# Altium schematic symbol library Schlib.SchLib: 6 symbols
Pins are listed as number, name and electrical type; pins without a type are passive.

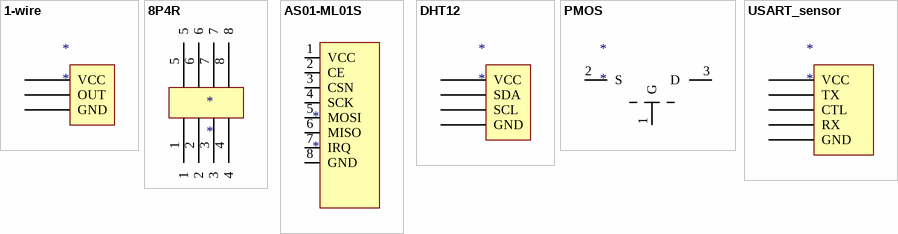
[diagram p0: symbols 1-wire to USART_sensor]

## 1-wire
designator *
pins: 1 VCC, 2 OUT, 3 GND

## 8P4R
designator *
贴片排阻
pins: 1, 2, 3, 4, 5, 6, 7, 8

## AS01-ML01S
designator *
贴片2.4G模块
footprint AS01-ML01S
pins: 1 VCC, 2 CE, 3 CSN, 4 SCK, 5 MOSI, 6 MISO, 7 IRQ, 8 GND

## DHT12
designator *
pins: 1 VCC, 2 SDA, 3 SCL, 4 GND

## PMOS
designator *
footprint SOT-23
pins: 1 G, 2 S, 3 D

## USART_sensor
designator *
pins: 0 VCC, 1 TX, 2 CTL, 3 RX, 4 GND